# Altium footprint library VNH5019A-E.PcbLib: 2 footprints
Each footprint in its own frame and in the unit in brackets; x right, y up, seen from the top. Pads: shape width x height; smd on the part's side, far side on the other; paste and mask are expansions set on the pad; w line width, h text height; cw(c..) or ccw(c..) is an arc to the next point about the centre after c.
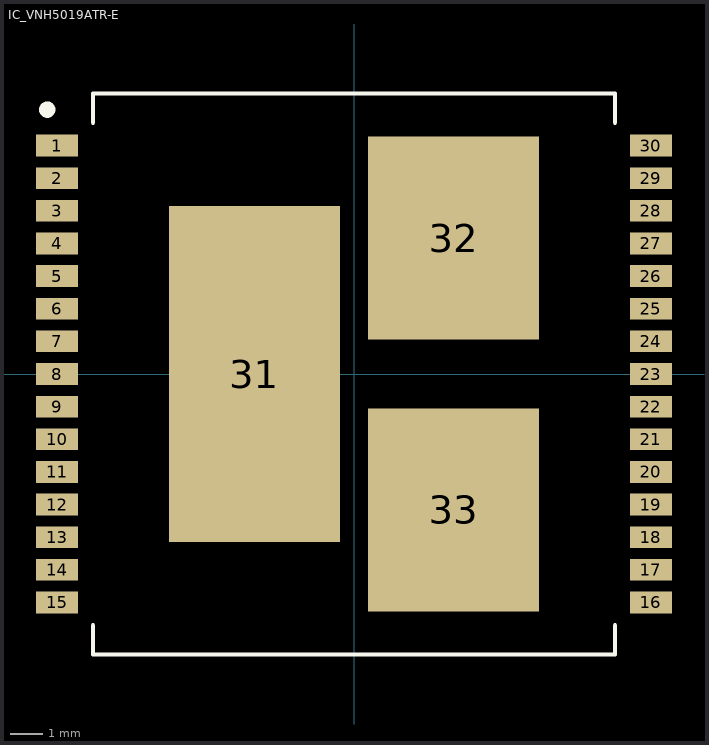
[diagram p0: the footprints below, top view; thin cyan lines are the x and y axes]

## IC_VNH5019ATR-E [mm]
pads (33):
  rect 1.3x0.665 smd: 1(-9.1,7) 2(-9.1,6) 3(-9.1,5) 4(-9.1,4) 5(-9.1,3) 6(-9.1,2) 7(-9.1,1) 8(-9.1,0) 9(-9.1,-1) 10(-9.1,-2) 11(-9.1,-3) 12(-9.1,-4) 13(-9.1,-5) 14(-9.1,-6) 15(-9.1,-7) 16(9.1,-7) 17(9.1,-6) 18(9.1,-5) 19(9.1,-4) 20(9.1,-3) 21(9.1,-2) 22(9.1,-1) 23(9.1,0) 24(9.1,1) 25(9.1,2) 26(9.1,3) 27(9.1,4) 28(9.1,5) 29(9.1,6) 30(9.1,7)
  rect 5.25x10.3 smd: 31(-3.05,0)
  rect 5.25x6.23 smd: 32(3.05,4.165) 33(3.05,-4.165)
Top Overlay:
  circle w0.3: c-9.4,8.1 r0.1
  lines w0.127: -8,-7.7 -8,-8.6 8,-8.6 8,-7.7 ; -8,7.7 -8,8.6 8,8.6 8,7.7
Top Paste:
  region: 1.391,6.135 4.71,6.135 4.71,2.196 1.391,2.196
  region: 1.39,-2.195 4.71,-2.195 4.71,-6.136 1.39,-6.136
  region: -4.711,3.257 -1.39,3.257 -1.39,-3.257 -4.711,-3.257
3D body "VNH5019ATR-E.STEP": height 2.5, standoff 0.15, extent -9.5,-8.6 9.5,8.6

## PCBComponent_1 [mm]